# Altium schematic symbol library Power_Part_V1.0.SchLib: 2 symbols
Pins are listed as number, name and electrical type; pins without a type are passive.

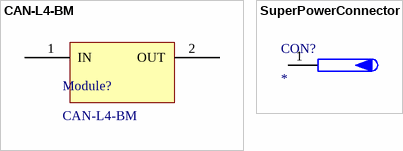
[diagram p0: symbols CAN-L4-BM to SuperPowerConnector]

## CAN-L4-BM
designator Module?
footprint PCBComponent_1
pins: 1 IN, 2 OUT

## SuperPowerConnector
designator CON?
footprint SuperPowerConnector
pins: 1 (power)